# Altium integrated library TI_Logic_Specialty_Logic.IntLib: 2504 symbols (part 54 of 81)
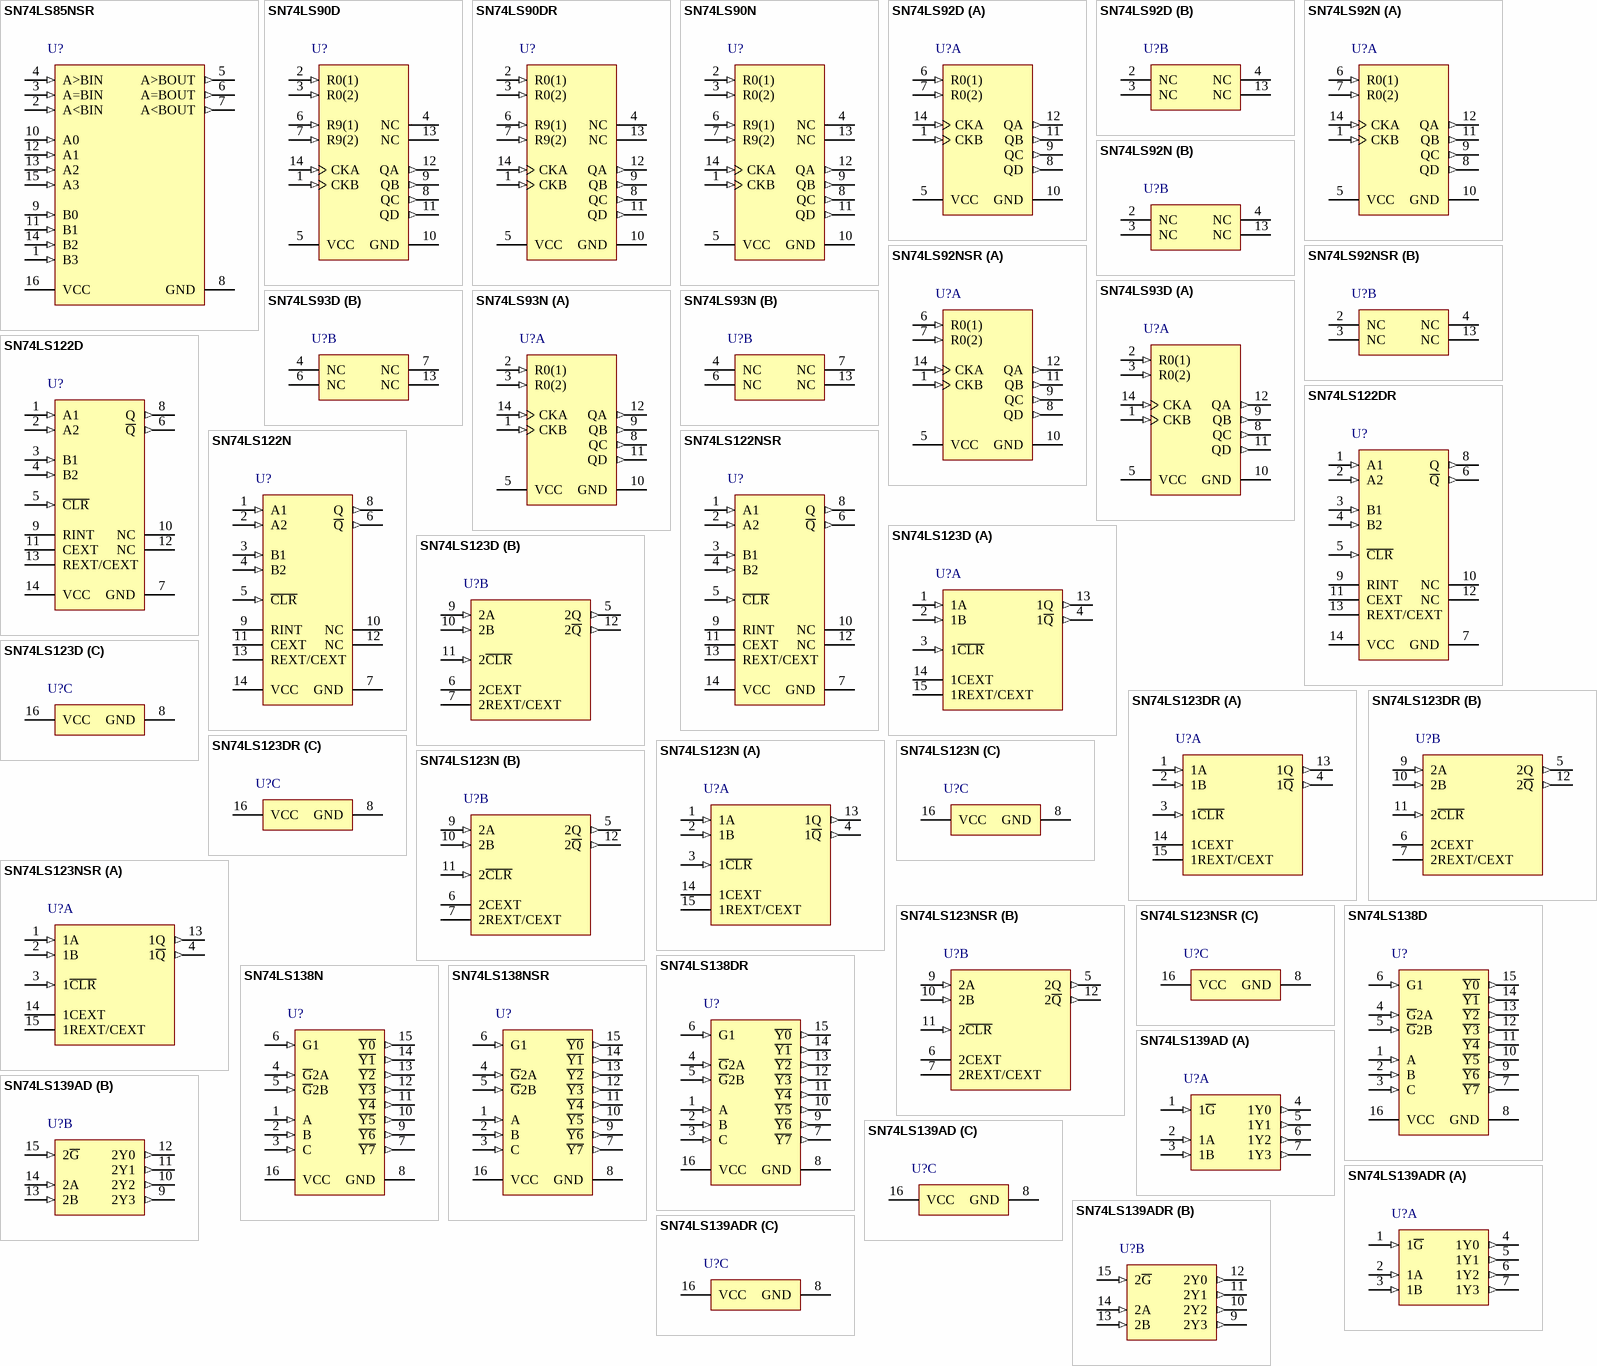
[diagram p157: symbols SN74LS85NSR to SN74LS139ADR]

## SN74LS122N
designator U?
Retriggerable monostable multivibrator, N0014A, TUBE; Generic Part Number: SN74LS122; Manufacturer: Texas Instruments; PartNumber: SN74LS122N; VCC(Min)(V): 4.75; VCC(Max)(V): 5.25; Output Type: TTL; ICC @ Nom Voltage(Max)(mA): 11; Bits(#): 2; F @ Nom Voltage(Max)(Mhz): 35; Rating: Catalog; Technology Family: LS; Voltage(Nom)(V): 5; Schmitt Trigger: No; Output Drive (IOL/IOH)(Max)(mA): 8/-0.4; tpd @ Nom Voltage(Max)(ns): 56; DatasheetVersion: SDLS043; PackageReference: N0014A; Supplier 1: Mouser; Supplier Part Number 1: 595-SN74LS122N; Supplier 2: Digi-Key; Supplier Part Number 2: 296-3639-5-ND; Input Type: TTL; Operating Temperature Range(C): 0 to 70; Code_JEDEC: MS-001; ComponentLink1Description: Manufacturer URL; ComponentLink1URL: http://www.ti.com/; ComponentLink2Description: Datasheet; ComponentLink2URL: http://www.ti.com/lit/ds/symlink/sn74ls122.pdf; ComponentLink3Description: Package Specification; ComponentLink3URL: http://www.ti.com/lit/ml/mpdi002c/mpdi002c.pdf
footprint N0014A (DIP, 14-Leads, Body 19.7x6.6mm, Pitch 2.54mm)
pins: 1 A1 (in), 2 A2 (in), 3 B1 (in), 4 B2 (in), 5 ~{CLR} (in), 6 ~{Q} (out), 7 GND (power), 8 Q (out), 9 RINT, 10 NC, 11 CEXT, 12 NC, 13 REXT/CEXT, 14 VCC (power)

## SN74LS122NSR
designator U?
Retriggerable monostable multivibrator, NS0014A, LARGE T&R; Generic Part Number: SN74LS122; Manufacturer: Texas Instruments; PartNumber: SN74LS122NSR; VCC(Min)(V): 4.75; VCC(Max)(V): 5.25; Output Type: TTL; ICC @ Nom Voltage(Max)(mA): 11; Bits(#): 2; F @ Nom Voltage(Max)(Mhz): 35; Rating: Catalog; Technology Family: LS; Voltage(Nom)(V): 5; Schmitt Trigger: No; Output Drive (IOL/IOH)(Max)(mA): 8/-0.4; tpd @ Nom Voltage(Max)(ns): 56; DatasheetVersion: SDLS043; PackageReference: NS0014A; Supplier 1: Mouser; Supplier Part Number 1: 595-SN74LS122NSR; Supplier 2: Digi-Key; Supplier Part Number 2: 296-13221-2-ND; Supplier 3: Digi-Key; Supplier Part Number 3: 296-13221-1-ND; Supplier 4: Digi-Key; Supplier Part Number 4: 296-13221-6-ND; Input Type: TTL; Operating Temperature Range(C): 0 to 70; ComponentLink1Description: Manufacturer URL; ComponentLink1URL: http://www.ti.com/; ComponentLink2Description: Datasheet; ComponentLink2URL: http://www.ti.com/lit/ds/symlink/sn74ls122.pdf; ComponentLink3Description: Package Specification; ComponentLink3URL: http://www.ti.com/lit/ml/msop002a/msop002a.pdf
footprint NS0014A_N (SOIC,14-Leads,Body 10.5x5.6mm,Pitch 1.27mm,IPC Medium Density)
footprint NS0014A_M (SOIC,14-Leads,Body 10.5x5.6mm,Pitch 1.27mm,IPC Low Density)
footprint NS0014A_L (SOIC,14-Leads,Body 10.5x5.6mm,Pitch 0.4mm,IPC High Density)
pins: 1 A1 (in), 2 A2 (in), 3 B1 (in), 4 B2 (in), 5 ~{CLR} (in), 6 ~{Q} (out), 7 GND (power), 8 Q (out), 9 RINT, 10 NC, 11 CEXT, 12 NC, 13 REXT/CEXT, 14 VCC (power)

## SN74LS123D
designator U?
Dual retriggerable monostable multivibrators, D0016A, TUBE; Generic Part Number: SN74LS123; Manufacturer: Texas Instruments; PartNumber: SN74LS123D; VCC(Min)(V): 4.75; VCC(Max)(V): 5.25; Output Type: TTL; ICC @ Nom Voltage(Max)(mA): 20; Bits(#): 2; F @ Nom Voltage(Max)(Mhz): 35; Rating: Catalog; Technology Family: LS; Voltage(Nom)(V): 5; Schmitt Trigger: No; Output Drive (IOL/IOH)(Max)(mA): 8/-0.4; tpd @ Nom Voltage(Max)(ns): 56; DatasheetVersion: SDLS043; PackageReference: D0016A; Supplier 1: Mouser; Supplier Part Number 1: 595-SN74LS123D; Supplier 2: Digi-Key; Supplier Part Number 2: 296-1635-5-ND; Input Type: TTL; Operating Temperature Range(C): 0 to 70; Code_JEDEC: MS-012 variation AC; ComponentLink1Description: Manufacturer URL; ComponentLink1URL: http://www.ti.com/; ComponentLink2Description: Datasheet; ComponentLink2URL: http://www.ti.com/lit/ds/symlink/sn74ls123.pdf; ComponentLink3Description: Package Specification; ComponentLink3URL: http://www.ti.com/lit/ml/mpds178g/mpds178g.pdf
footprint D0016A_N (SOIC, 16-Leads, Body 10x4mm, Pitch 1.27mm, IPC Medium Density)
footprint D0016A_M (SOIC, 16-Leads, Body 10x4mm, Pitch 1.27mm, IPC Low Density)
footprint D0016A_L (SOIC, 16-Leads, Body 10x4mm, Pitch 1.27mm, IPC High Density)
part A pins: 1 1A (in), 2 1B (in), 3 1~{CLR} (in), 4 1~{Q} (out), 13 1Q (out), 14 1CEXT, 15 1REXT/CEXT
part B pins: 5 2Q (out), 6 2CEXT, 7 2REXT/CEXT, 9 2A (in), 10 2B (in), 11 2~{CLR} (in), 12 2~{Q} (out)
part C pins: 8 GND (power), 16 VCC (power)

## SN74LS123DR
designator U?
Dual retriggerable monostable multivibrators, D0016A, LARGE T&R; Generic Part Number: SN74LS123; Manufacturer: Texas Instruments; PartNumber: SN74LS123DR; VCC(Min)(V): 4.75; VCC(Max)(V): 5.25; Output Type: TTL; ICC @ Nom Voltage(Max)(mA): 20; Bits(#): 2; F @ Nom Voltage(Max)(Mhz): 35; Rating: Catalog; Technology Family: LS; Voltage(Nom)(V): 5; Schmitt Trigger: No; Output Drive (IOL/IOH)(Max)(mA): 8/-0.4; tpd @ Nom Voltage(Max)(ns): 56; DatasheetVersion: SDLS043; PackageReference: D0016A; Supplier 1: Mouser; Supplier Part Number 1: 595-SN74LS123DR; Supplier 2: Digi-Key; Supplier Part Number 2: 296-14881-2-ND; Supplier 3: Digi-Key; Supplier Part Number 3: 296-14881-1-ND; Supplier 4: Digi-Key; Supplier Part Number 4: 296-14881-6-ND; Input Type: TTL; Operating Temperature Range(C): 0 to 70; Code_JEDEC: MS-012 variation AC; ComponentLink1Description: Manufacturer URL; ComponentLink1URL: http://www.ti.com/; ComponentLink2Description: Datasheet; ComponentLink2URL: http://www.ti.com/lit/ds/symlink/sn74ls123.pdf; ComponentLink3Description: Package Specification; ComponentLink3URL: http://www.ti.com/lit/ml/mpds178g/mpds178g.pdf
footprint D0016A_N (SOIC, 16-Leads, Body 10x4mm, Pitch 1.27mm, IPC Medium Density)
footprint D0016A_M (SOIC, 16-Leads, Body 10x4mm, Pitch 1.27mm, IPC Low Density)
footprint D0016A_L (SOIC, 16-Leads, Body 10x4mm, Pitch 1.27mm, IPC High Density)
part A pins: 1 1A (in), 2 1B (in), 3 1~{CLR} (in), 4 1~{Q} (out), 13 1Q (out), 14 1CEXT, 15 1REXT/CEXT
part B pins: 5 2Q (out), 6 2CEXT, 7 2REXT/CEXT, 9 2A (in), 10 2B (in), 11 2~{CLR} (in), 12 2~{Q} (out)
part C pins: 8 GND (power), 16 VCC (power)

## SN74LS123N
designator U?
Dual retriggerable monostable multivibrators, N0016A, TUBE; Generic Part Number: SN74LS123; Manufacturer: Texas Instruments; PartNumber: SN74LS123N; VCC(Min)(V): 4.75; VCC(Max)(V): 5.25; Output Type: TTL; ICC @ Nom Voltage(Max)(mA): 20; Bits(#): 2; F @ Nom Voltage(Max)(Mhz): 35; Rating: Catalog; Technology Family: LS; Voltage(Nom)(V): 5; Schmitt Trigger: No; Output Drive (IOL/IOH)(Max)(mA): 8/-0.4; tpd @ Nom Voltage(Max)(ns): 56; DatasheetVersion: SDLS043; PackageReference: N0016A; Supplier 1: Mouser; Supplier Part Number 1: 595-SN74LS123N; Supplier 2: Digi-Key; Supplier Part Number 2: 296-1636-5-ND; Input Type: TTL; Operating Temperature Range(C): 0 to 70; Code_JEDEC: MS-001; ComponentLink1Description: Manufacturer URL; ComponentLink1URL: http://www.ti.com/; ComponentLink2Description: Datasheet; ComponentLink2URL: http://www.ti.com/lit/ds/symlink/sn74ls123.pdf; ComponentLink3Description: Package Specification; ComponentLink3URL: http://www.ti.com/lit/ml/mpdi002c/mpdi002c.pdf
footprint N0016A (DIP, 16-Leads, Body 19.7x6.6mm, Pitch 2.54mm)
part A pins: 1 1A (in), 2 1B (in), 3 1~{CLR} (in), 4 1~{Q} (out), 13 1Q (out), 14 1CEXT, 15 1REXT/CEXT
part B pins: 5 2Q (out), 6 2CEXT, 7 2REXT/CEXT, 9 2A (in), 10 2B (in), 11 2~{CLR} (in), 12 2~{Q} (out)
part C pins: 8 GND (power), 16 VCC (power)

## SN74LS123NSR
designator U?
Dual retriggerable monostable multivibrators, NS0016A, LARGE T&R; Generic Part Number: SN74LS123; Manufacturer: Texas Instruments; PartNumber: SN74LS123NSR; VCC(Min)(V): 4.75; VCC(Max)(V): 5.25; Output Type: TTL; ICC @ Nom Voltage(Max)(mA): 20; Bits(#): 2; F @ Nom Voltage(Max)(Mhz): 35; Rating: Catalog; Technology Family: LS; Voltage(Nom)(V): 5; Schmitt Trigger: No; Output Drive (IOL/IOH)(Max)(mA): 8/-0.4; tpd @ Nom Voltage(Max)(ns): 56; DatasheetVersion: SDLS043; PackageReference: NS0016A; Supplier 1: Mouser; Supplier Part Number 1: 595-SN74LS123NSR; Supplier 2: Digi-Key; Supplier Part Number 2: 296-26503-2-ND; Supplier 3: Digi-Key; Supplier Part Number 3: 296-26503-1-ND; Supplier 4: Digi-Key; Supplier Part Number 4: 296-26503-6-ND; Input Type: TTL; Operating Temperature Range(C): 0 to 70; ComponentLink1Description: Manufacturer URL; ComponentLink1URL: http://www.ti.com/; ComponentLink2Description: Datasheet; ComponentLink2URL: http://www.ti.com/lit/ds/symlink/sn74ls123.pdf; ComponentLink3Description: Package Specification; ComponentLink3URL: http://www.ti.com/lit/ml/msop002a/msop002a.pdf
footprint NS0016A_N (SOIC,16-Leads,Body 10.5x5.6mm,Pitch 1.27mm,IPC Medium Density)
footprint NS0016A_M (SOIC,16-Leads,Body 10.5x5.6mm,Pitch 1.27mm,IPC Low Density)
footprint NS0016A_L (SOIC,16-Leads,Body 10.5x5.6mm,Pitch 1.27mm,IPC High Density)
part A pins: 1 1A (in), 2 1B (in), 3 1~{CLR} (in), 4 1~{Q} (out), 13 1Q (out), 14 1CEXT, 15 1REXT/CEXT
part B pins: 5 2Q (out), 6 2CEXT, 7 2REXT/CEXT, 9 2A (in), 10 2B (in), 11 2~{CLR} (in), 12 2~{Q} (out)
part C pins: 8 GND (power), 16 VCC (power)

## SN74LS138D
designator U?
3-line to 8-line decoder / demultiplexer, D0016A, TUBE; Generic Part Number: SN74LS138; Manufacturer: Texas Instruments; PartNumber: SN74LS138D; VCC(Min)(V): 4.75; VCC(Max)(V): 5.25; Output Type: TTL; ICC @ Nom Voltage(Max)(mA): 10; Bits(#): 8; F @ Nom Voltage(Max)(Mhz): 35; Configuration: 3：8; Channels(#): 1; Rating: Catalog; Technology Family: LS; Voltage(Nom)(V): 5; Schmitt Trigger: No; Output Drive (IOL/IOH)(Max)(mA): 8/-0.4; tpd @ Nom Voltage(Max)(ns): 41; DatasheetVersion: SDLS014; PackageReference: D0016A; Supplier 1: Mouser; Supplier Part Number 1: 595-SN74LS138D; Supplier 2: Digi-Key; Supplier Part Number 2: 296-3648-5-ND; Function: Decoder/Demultiplexer; Input Type: TTL; Operating Temperature Range(C): 0 to 70; Type: Standard; Code_JEDEC: MS-012 variation AC; ComponentLink1Description: Manufacturer URL; ComponentLink1URL: http://www.ti.com/; ComponentLink2Description: Datasheet; ComponentLink2URL: http://www.ti.com/lit/ds/symlink/sn74ls138.pdf; ComponentLink3Description: Package Specification; ComponentLink3URL: http://www.ti.com/lit/ml/mpds178g/mpds178g.pdf
footprint D0016A_N (SOIC, 16-Leads, Body 10x4mm, Pitch 1.27mm, IPC Medium Density)
footprint D0016A_M (SOIC, 16-Leads, Body 10x4mm, Pitch 1.27mm, IPC Low Density)
footprint D0016A_L (SOIC, 16-Leads, Body 10x4mm, Pitch 1.27mm, IPC High Density)
pins: 1 A (in), 2 B (in), 3 C (in), 4 ~{G}2A (in), 5 ~{G}2B (in), 6 G1 (in), 7 ~{Y7} (out), 8 GND (power), 9 ~{Y6} (out), 10 ~{Y5} (out), 11 ~{Y4} (out), 12 ~{Y3} (out), 13 ~{Y2} (out), 14 ~{Y1} (out), 15 ~{Y0} (out), 16 VCC (power)

## SN74LS138DR
designator U?
3-line to 8-line decoder / demultiplexer, D0016A, LARGE T&R; Generic Part Number: SN74LS138; Manufacturer: Texas Instruments; PartNumber: SN74LS138DR; VCC(Min)(V): 4.75; VCC(Max)(V): 5.25; Output Type: TTL; ICC @ Nom Voltage(Max)(mA): 10; Bits(#): 8; F @ Nom Voltage(Max)(Mhz): 35; Configuration: 3：8; Channels(#): 1; Rating: Catalog; Technology Family: LS; Voltage(Nom)(V): 5; Schmitt Trigger: No; Output Drive (IOL/IOH)(Max)(mA): 8/-0.4; tpd @ Nom Voltage(Max)(ns): 41; DatasheetVersion: SDLS014; PackageReference: D0016A; Supplier 1: Mouser; Supplier Part Number 1: 595-SN74LS138DR; Supplier 2: Digi-Key; Supplier Part Number 2: 296-14883-2-ND; Supplier 3: Digi-Key; Supplier Part Number 3: 296-14883-1-ND; Supplier 4: Digi-Key; Supplier Part Number 4: 296-14883-6-ND; Function: Decoder/Demultiplexer; Input Type: TTL; Operating Temperature Range(C): 0 to 70; Type: Standard; Code_JEDEC: MS-012 variation AC; ComponentLink1Description: Manufacturer URL; ComponentLink1URL: http://www.ti.com/; ComponentLink2Description: Datasheet; ComponentLink2URL: http://www.ti.com/lit/ds/symlink/sn74ls138.pdf; ComponentLink3Description: Package Specification; ComponentLink3URL: http://www.ti.com/lit/ml/mpds178g/mpds178g.pdf
footprint D0016A_N (SOIC, 16-Leads, Body 10x4mm, Pitch 1.27mm, IPC Medium Density)
footprint D0016A_M (SOIC, 16-Leads, Body 10x4mm, Pitch 1.27mm, IPC Low Density)
footprint D0016A_L (SOIC, 16-Leads, Body 10x4mm, Pitch 1.27mm, IPC High Density)
pins: 1 A (in), 2 B (in), 3 C (in), 4 ~{G}2A (in), 5 ~{G}2B (in), 6 G1 (in), 7 ~{Y7} (out), 8 GND (power), 9 ~{Y6} (out), 10 ~{Y5} (out), 11 ~{Y4} (out), 12 ~{Y3} (out), 13 ~{Y2} (out), 14 ~{Y1} (out), 15 ~{Y0} (out), 16 VCC (power)

## SN74LS138N
designator U?
3-line to 8-line decoder / demultiplexer, N0016A, TUBE; Generic Part Number: SN74LS138; Manufacturer: Texas Instruments; PartNumber: SN74LS138N; VCC(Min)(V): 4.75; VCC(Max)(V): 5.25; Output Type: TTL; ICC @ Nom Voltage(Max)(mA): 10; Bits(#): 8; F @ Nom Voltage(Max)(Mhz): 35; Configuration: 3：8; Channels(#): 1; Rating: Catalog; Technology Family: LS; Voltage(Nom)(V): 5; Schmitt Trigger: No; Output Drive (IOL/IOH)(Max)(mA): 8/-0.4; tpd @ Nom Voltage(Max)(ns): 41; DatasheetVersion: SDLS014; PackageReference: N0016A; Supplier 1: Mouser; Supplier Part Number 1: 595-SN74LS138N; Supplier 2: Digi-Key; Supplier Part Number 2: 296-1639-5-ND; Function: Decoder/Demultiplexer; Input Type: TTL; Operating Temperature Range(C): 0 to 70; Type: Standard; Code_JEDEC: MS-001; ComponentLink1Description: Manufacturer URL; ComponentLink1URL: http://www.ti.com/; ComponentLink2Description: Datasheet; ComponentLink2URL: http://www.ti.com/lit/ds/symlink/sn74ls138.pdf; ComponentLink3Description: Package Specification; ComponentLink3URL: http://www.ti.com/lit/ml/mpdi002c/mpdi002c.pdf
footprint N0016A (DIP, 16-Leads, Body 19.7x6.6mm, Pitch 2.54mm)
pins: 1 A (in), 2 B (in), 3 C (in), 4 ~{G}2A (in), 5 ~{G}2B (in), 6 G1 (in), 7 ~{Y7} (out), 8 GND (power), 9 ~{Y6} (out), 10 ~{Y5} (out), 11 ~{Y4} (out), 12 ~{Y3} (out), 13 ~{Y2} (out), 14 ~{Y1} (out), 15 ~{Y0} (out), 16 VCC (power)

## SN74LS138NSR
designator U?
3-line to 8-line decoder / demultiplexer, NS0016A, LARGE T&R; Generic Part Number: SN74LS138; Manufacturer: Texas Instruments; PartNumber: SN74LS138NSR; VCC(Min)(V): 4.75; VCC(Max)(V): 5.25; Output Type: TTL; ICC @ Nom Voltage(Max)(mA): 10; Bits(#): 8; F @ Nom Voltage(Max)(Mhz): 35; Configuration: 3：8; Channels(#): 1; Rating: Catalog; Technology Family: LS; Voltage(Nom)(V): 5; Schmitt Trigger: No; Output Drive (IOL/IOH)(Max)(mA): 8/-0.4; tpd @ Nom Voltage(Max)(ns): 41; DatasheetVersion: SDLS014; PackageReference: NS0016A; Supplier 1: Mouser; Supplier Part Number 1: 595-SN74LS138NSR; Supplier 2: Digi-Key; Supplier Part Number 2: 296-31849-2-ND; Supplier 3: Digi-Key; Supplier Part Number 3: 296-31849-1-ND; Supplier 4: Digi-Key; Supplier Part Number 4: 296-31849-6-ND; Function: Decoder/Demultiplexer; Input Type: TTL; Operating Temperature Range(C): 0 to 70; Type: Standard; ComponentLink1Description: Manufacturer URL; ComponentLink1URL: http://www.ti.com/; ComponentLink2Description: Datasheet; ComponentLink2URL: http://www.ti.com/lit/ds/symlink/sn74ls138.pdf; ComponentLink3Description: Package Specification; ComponentLink3URL: http://www.ti.com/lit/ml/msop002a/msop002a.pdf
footprint NS0016A_N (SOIC,16-Leads,Body 10.5x5.6mm,Pitch 1.27mm,IPC Medium Density)
footprint NS0016A_M (SOIC,16-Leads,Body 10.5x5.6mm,Pitch 1.27mm,IPC Low Density)
footprint NS0016A_L (SOIC,16-Leads,Body 10.5x5.6mm,Pitch 1.27mm,IPC High Density)
pins: 1 A (in), 2 B (in), 3 C (in), 4 ~{G}2A (in), 5 ~{G}2B (in), 6 G1 (in), 7 ~{Y7} (out), 8 GND (power), 9 ~{Y6} (out), 10 ~{Y5} (out), 11 ~{Y4} (out), 12 ~{Y3} (out), 13 ~{Y2} (out), 14 ~{Y1} (out), 15 ~{Y0} (out), 16 VCC (power)

## SN74LS139AD
designator U?
Dual 2-line to 4-line decoders / demultiplexers, D0016A, TUBE; Generic Part Number: SN74LS139A; Manufacturer: Texas Instruments; PartNumber: SN74LS139AD; VCC(Min)(V): 4.75; VCC(Max)(V): 5.25; Output Type: TTL; Function: Decoder/Demultiplexer; ICC @ Nom Voltage(Max)(mA): 11; Bits(#): 4; F @ Nom Voltage(Max)(Mhz): 35; Configuration: 2：4; Channels(#): 2; Rating: Catalog; Technology Family: LS; Voltage(Nom)(V): 5; Schmitt Trigger: No; Output Drive (IOL/IOH)(Max)(mA): 8/-0.4; tpd @ Nom Voltage(Max)(ns): 33; DatasheetVersion: SDLS013A; PackageReference: D0016A; Supplier 1: Mouser; Supplier Part Number 1: 595-SN74LS139AD; Supplier 2: Digi-Key; Supplier Part Number 2: 296-3649-5-ND; Input Type: TTL; Operating Temperature Range(C): 0 to 70; Type: Standard; Code_JEDEC: MS-012 variation AC; ComponentLink1Description: Manufacturer URL; ComponentLink1URL: http://www.ti.com/; ComponentLink2Description: Datasheet; ComponentLink2URL: http://www.ti.com/lit/ds/symlink/sn74ls139a.pdf; ComponentLink3Description: Package Specification; ComponentLink3URL: http://www.ti.com/lit/ml/mpds178g/mpds178g.pdf
footprint D0016A_N (SOIC, 16-Leads, Body 10x4mm, Pitch 1.27mm, IPC Medium Density)
footprint D0016A_M (SOIC, 16-Leads, Body 10x4mm, Pitch 1.27mm, IPC Low Density)
footprint D0016A_L (SOIC, 16-Leads, Body 10x4mm, Pitch 1.27mm, IPC High Density)
part A pins: 1 1~{G} (in), 2 1A (in), 3 1B (in), 4 1Y0 (out), 5 1Y1 (out), 6 1Y2 (out), 7 1Y3 (out)
part B pins: 9 2Y3 (out), 10 2Y2 (out), 11 2Y1 (out), 12 2Y0 (out), 13 2B (in), 14 2A (in), 15 2~{G} (in)
part C pins: 8 GND (power), 16 VCC (power)

## SN74LS139ADR
designator U?
Dual 2-line to 4-line decoders / demultiplexers, D0016A, LARGE T&R; Generic Part Number: SN74LS139A; Manufacturer: Texas Instruments; PartNumber: SN74LS139ADR; VCC(Min)(V): 4.75; VCC(Max)(V): 5.25; Output Type: TTL; Function: Decoder/Demultiplexer; ICC @ Nom Voltage(Max)(mA): 11; Bits(#): 4; F @ Nom Voltage(Max)(Mhz): 35; Configuration: 2：4; Channels(#): 2; Rating: Catalog; Technology Family: LS; Voltage(Nom)(V): 5; Schmitt Trigger: No; Output Drive (IOL/IOH)(Max)(mA): 8/-0.4; tpd @ Nom Voltage(Max)(ns): 33; DatasheetVersion: SDLS013A; PackageReference: D0016A; Supplier 1: Mouser; Supplier Part Number 1: 595-SN74LS139ADR; Supplier 2: Digi-Key; Supplier Part Number 2: 296-31850-2-ND; Supplier 3: Digi-Key; Supplier Part Number 3: 296-31850-1-ND; Supplier 4: Digi-Key; Supplier Part Number 4: 296-31850-6-ND; Input Type: TTL; Operating Temperature Range(C): 0 to 70; Type: Standard; Code_JEDEC: MS-012 variation AC; ComponentLink1Description: Manufacturer URL; ComponentLink1URL: http://www.ti.com/; ComponentLink2Description: Datasheet; ComponentLink2URL: http://www.ti.com/lit/ds/symlink/sn74ls139a.pdf; ComponentLink3Description: Package Specification; ComponentLink3URL: http://www.ti.com/lit/ml/mpds178g/mpds178g.pdf
footprint D0016A_N (SOIC, 16-Leads, Body 10x4mm, Pitch 1.27mm, IPC Medium Density)
footprint D0016A_M (SOIC, 16-Leads, Body 10x4mm, Pitch 1.27mm, IPC Low Density)
footprint D0016A_L (SOIC, 16-Leads, Body 10x4mm, Pitch 1.27mm, IPC High Density)
part A pins: 1 1~{G} (in), 2 1A (in), 3 1B (in), 4 1Y0 (out), 5 1Y1 (out), 6 1Y2 (out), 7 1Y3 (out)
part B pins: 9 2Y3 (out), 10 2Y2 (out), 11 2Y1 (out), 12 2Y0 (out), 13 2B (in), 14 2A (in), 15 2~{G} (in)
part C pins: 8 GND (power), 16 VCC (power)

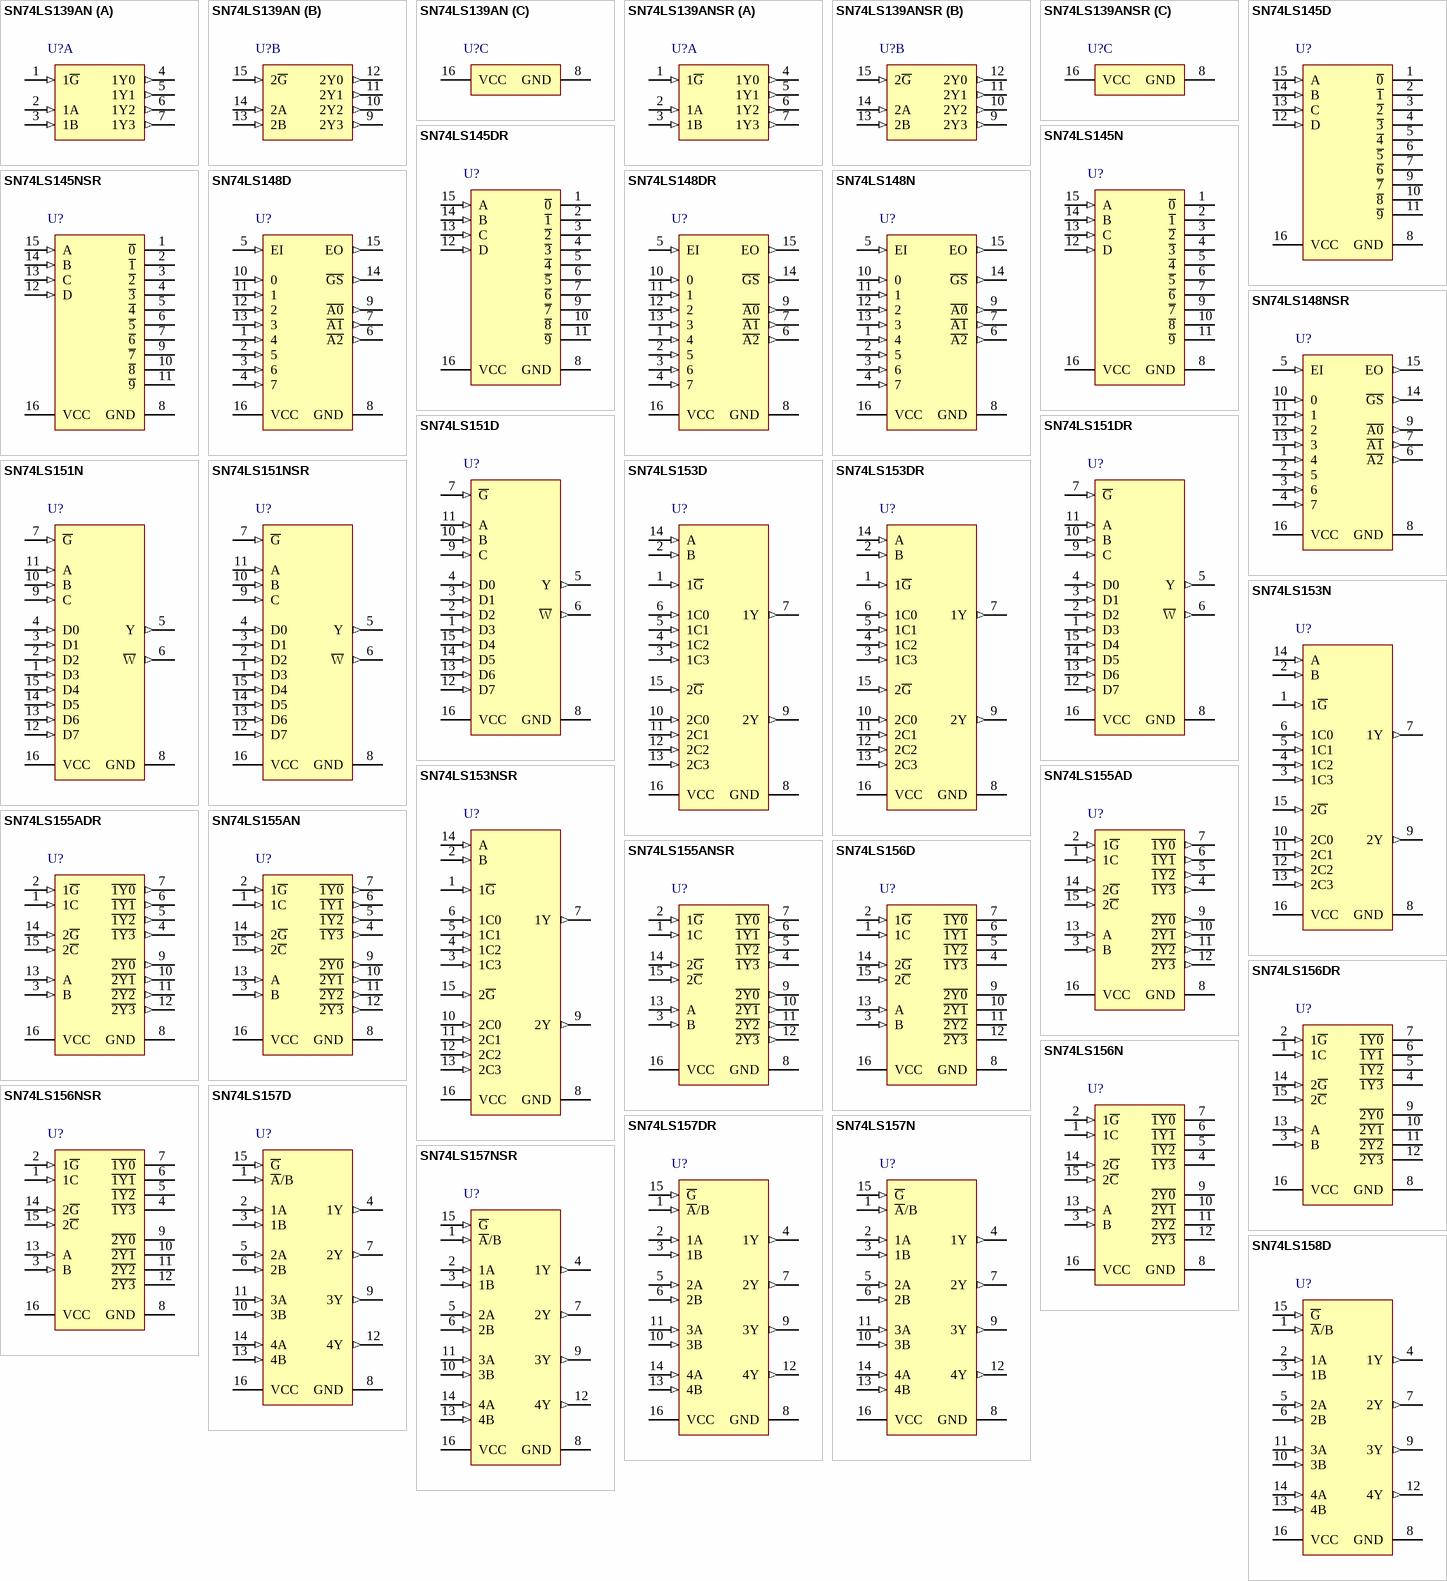
[diagram p68: symbols SN74LS139AN to SN74LS158D]

## SN74LS139AN
designator U?
Dual 2-line to 4-line decoders / demultiplexers, N0016A, TUBE; Generic Part Number: SN74LS139A; Manufacturer: Texas Instruments; PartNumber: SN74LS139AN; VCC(Min)(V): 4.75; VCC(Max)(V): 5.25; Output Type: TTL; Function: Decoder/Demultiplexer; ICC @ Nom Voltage(Max)(mA): 11; Bits(#): 4; F @ Nom Voltage(Max)(Mhz): 35; Configuration: 2：4; Channels(#): 2; Rating: Catalog; Technology Family: LS; Voltage(Nom)(V): 5; Schmitt Trigger: No; Output Drive (IOL/IOH)(Max)(mA): 8/-0.4; tpd @ Nom Voltage(Max)(ns): 33; DatasheetVersion: SDLS013A; PackageReference: N0016A; Supplier 1: Mouser; Supplier Part Number 1: 595-SN74LS139AN; Supplier 2: Digi-Key; Supplier Part Number 2: 296-1640-5-ND; Input Type: TTL; Operating Temperature Range(C): 0 to 70; Type: Standard; Code_JEDEC: MS-001; ComponentLink1Description: Manufacturer URL; ComponentLink1URL: http://www.ti.com/; ComponentLink2Description: Datasheet; ComponentLink2URL: http://www.ti.com/lit/ds/symlink/sn74ls139a.pdf; ComponentLink3Description: Package Specification; ComponentLink3URL: http://www.ti.com/lit/ml/mpdi002c/mpdi002c.pdf
footprint N0016A (DIP, 16-Leads, Body 19.7x6.6mm, Pitch 2.54mm)
part A pins: 1 1~{G} (in), 2 1A (in), 3 1B (in), 4 1Y0 (out), 5 1Y1 (out), 6 1Y2 (out), 7 1Y3 (out)
part B pins: 9 2Y3 (out), 10 2Y2 (out), 11 2Y1 (out), 12 2Y0 (out), 13 2B (in), 14 2A (in), 15 2~{G} (in)
part C pins: 8 GND (power), 16 VCC (power)

## SN74LS139ANSR
designator U?
Dual 2-line to 4-line decoders / demultiplexers, NS0016A, LARGE T&R; Generic Part Number: SN74LS139A; Manufacturer: Texas Instruments; PartNumber: SN74LS139ANSR; VCC(Min)(V): 4.75; VCC(Max)(V): 5.25; Output Type: TTL; Function: Decoder/Demultiplexer; ICC @ Nom Voltage(Max)(mA): 11; Bits(#): 4; F @ Nom Voltage(Max)(Mhz): 35; Configuration: 2：4; Channels(#): 2; Rating: Catalog; Technology Family: LS; Voltage(Nom)(V): 5; Schmitt Trigger: No; Output Drive (IOL/IOH)(Max)(mA): 8/-0.4; tpd @ Nom Voltage(Max)(ns): 33; DatasheetVersion: SDLS013A; PackageReference: NS0016A; Supplier 1: Mouser; Supplier Part Number 1: 595-SN74LS139ANSR; Supplier 2: Digi-Key; Supplier Part Number 2: 296-28940-2-ND; Supplier 3: Digi-Key; Supplier Part Number 3: 296-28940-1-ND; Supplier 4: Digi-Key; Supplier Part Number 4: 296-28940-6-ND; Input Type: TTL; Operating Temperature Range(C): 0 to 70; Type: Standard; ComponentLink1Description: Manufacturer URL; ComponentLink1URL: http://www.ti.com/; ComponentLink2Description: Datasheet; ComponentLink2URL: http://www.ti.com/lit/ds/symlink/sn74ls139a.pdf; ComponentLink3Description: Package Specification; ComponentLink3URL: http://www.ti.com/lit/ml/msop002a/msop002a.pdf
footprint NS0016A_N (SOIC,16-Leads,Body 10.5x5.6mm,Pitch 1.27mm,IPC Medium Density)
footprint NS0016A_M (SOIC,16-Leads,Body 10.5x5.6mm,Pitch 1.27mm,IPC Low Density)
footprint NS0016A_L (SOIC,16-Leads,Body 10.5x5.6mm,Pitch 1.27mm,IPC High Density)
part A pins: 1 1~{G} (in), 2 1A (in), 3 1B (in), 4 1Y0 (out), 5 1Y1 (out), 6 1Y2 (out), 7 1Y3 (out)
part B pins: 9 2Y3 (out), 10 2Y2 (out), 11 2Y1 (out), 12 2Y0 (out), 13 2B (in), 14 2A (in), 15 2~{G} (in)
part C pins: 8 GND (power), 16 VCC (power)

## SN74LS145D
designator U?
BCD-To-Decimal Decoders/Drivers, D0016A, TUBE; Generic Part Number: SN74LS145; Manufacturer: Texas Instruments; PartNumber: SN74LS145D; VCC(Min)(V): 4.75; VCC(Max)(V): 5.25; Output Type: TTL; Function: Decoder/Demultiplexer; ICC @ Nom Voltage(Max)(mA): 13; Bits(#): 10; F @ Nom Voltage(Max)(Mhz): 35; Configuration: 4：10; Channels(#): 1; Rating: Catalog; Technology Family: LS; Voltage(Nom)(V): 5; Schmitt Trigger: No; Output Drive (IOL/IOH)(Max)(mA): 80/-20; tpd @ Nom Voltage(Max)(ns): 50; DatasheetVersion: SDLS051; PackageReference: D0016A; Supplier 1: Mouser; Supplier Part Number 1: 595-SN74LS145D; Supplier 2: Digi-Key; Supplier Part Number 2: 296-26504-5-ND; Input Type: TTL; Operating Temperature Range(C): 0 to 70; Type: Standard; Code_JEDEC: MS-012 variation AC; ComponentLink1Description: Manufacturer URL; ComponentLink1URL: http://www.ti.com/; ComponentLink2Description: Datasheet; ComponentLink2URL: http://www.ti.com/lit/ds/symlink/sn74ls145.pdf; ComponentLink3Description: Package Specification; ComponentLink3URL: http://www.ti.com/lit/ml/mpds178g/mpds178g.pdf
footprint D0016A_N (SOIC, 16-Leads, Body 10x4mm, Pitch 1.27mm, IPC Medium Density)
footprint D0016A_M (SOIC, 16-Leads, Body 10x4mm, Pitch 1.27mm, IPC Low Density)
footprint D0016A_L (SOIC, 16-Leads, Body 10x4mm, Pitch 1.27mm, IPC High Density)
pins: 1 ~{0} (oc), 2 ~{1} (oc), 3 ~{2} (oc), 4 ~{3} (oc), 5 ~{4} (oc), 6 ~{5} (oc), 7 ~{6} (oc), 8 GND (power), 9 ~{7} (oc), 10 ~{8} (oc), 11 ~{9} (oc), 12 D (in), 13 C (in), 14 B (in), 15 A (in), 16 VCC (power)

## SN74LS145DR
designator U?
BCD-To-Decimal Decoders/Drivers, D0016A, LARGE T&R; Generic Part Number: SN74LS145; Manufacturer: Texas Instruments; PartNumber: SN74LS145DR; VCC(Min)(V): 4.75; VCC(Max)(V): 5.25; Output Type: TTL; Function: Decoder/Demultiplexer; ICC @ Nom Voltage(Max)(mA): 13; Bits(#): 10; F @ Nom Voltage(Max)(Mhz): 35; Configuration: 4：10; Channels(#): 1; Rating: Catalog; Technology Family: LS; Voltage(Nom)(V): 5; Schmitt Trigger: No; Output Drive (IOL/IOH)(Max)(mA): 80/-20; tpd @ Nom Voltage(Max)(ns): 50; DatasheetVersion: SDLS051; PackageReference: D0016A; Supplier 1: Mouser; Supplier Part Number 1: 595-SN74LS145DR; Supplier 2: Digi-Key; Supplier Part Number 2: 296-31851-2-ND; Supplier 3: Digi-Key; Supplier Part Number 3: 296-31851-1-ND; Supplier 4: Digi-Key; Supplier Part Number 4: 296-31851-6-ND; Input Type: TTL; Operating Temperature Range(C): 0 to 70; Type: Standard; Code_JEDEC: MS-012 variation AC; ComponentLink1Description: Manufacturer URL; ComponentLink1URL: http://www.ti.com/; ComponentLink2Description: Datasheet; ComponentLink2URL: http://www.ti.com/lit/ds/symlink/sn74ls145.pdf; ComponentLink3Description: Package Specification; ComponentLink3URL: http://www.ti.com/lit/ml/mpds178g/mpds178g.pdf
footprint D0016A_N (SOIC, 16-Leads, Body 10x4mm, Pitch 1.27mm, IPC Medium Density)
footprint D0016A_M (SOIC, 16-Leads, Body 10x4mm, Pitch 1.27mm, IPC Low Density)
footprint D0016A_L (SOIC, 16-Leads, Body 10x4mm, Pitch 1.27mm, IPC High Density)
pins: 1 ~{0} (oc), 2 ~{1} (oc), 3 ~{2} (oc), 4 ~{3} (oc), 5 ~{4} (oc), 6 ~{5} (oc), 7 ~{6} (oc), 8 GND (power), 9 ~{7} (oc), 10 ~{8} (oc), 11 ~{9} (oc), 12 D (in), 13 C (in), 14 B (in), 15 A (in), 16 VCC (power)

## SN74LS145N
designator U?
BCD-To-Decimal Decoders/Drivers, N0016A, TUBE; Generic Part Number: SN74LS145; Manufacturer: Texas Instruments; PartNumber: SN74LS145N; VCC(Min)(V): 4.75; VCC(Max)(V): 5.25; Output Type: TTL; Function: Decoder/Demultiplexer; ICC @ Nom Voltage(Max)(mA): 13; Bits(#): 10; F @ Nom Voltage(Max)(Mhz): 35; Configuration: 4：10; Channels(#): 1; Rating: Catalog; Technology Family: LS; Voltage(Nom)(V): 5; Schmitt Trigger: No; Output Drive (IOL/IOH)(Max)(mA): 80/-20; tpd @ Nom Voltage(Max)(ns): 50; DatasheetVersion: SDLS051; PackageReference: N0016A; Supplier 1: Mouser; Supplier Part Number 1: 595-SN74LS145N; Supplier 2: Digi-Key; Supplier Part Number 2: 296-1641-5-ND; Input Type: TTL; Operating Temperature Range(C): 0 to 70; Type: Standard; Code_JEDEC: MS-001; ComponentLink1Description: Manufacturer URL; ComponentLink1URL: http://www.ti.com/; ComponentLink2Description: Datasheet; ComponentLink2URL: http://www.ti.com/lit/ds/symlink/sn74ls145.pdf; ComponentLink3Description: Package Specification; ComponentLink3URL: http://www.ti.com/lit/ml/mpdi002c/mpdi002c.pdf
footprint N0016A (DIP, 16-Leads, Body 19.7x6.6mm, Pitch 2.54mm)
pins: 1 ~{0} (oc), 2 ~{1} (oc), 3 ~{2} (oc), 4 ~{3} (oc), 5 ~{4} (oc), 6 ~{5} (oc), 7 ~{6} (oc), 8 GND (power), 9 ~{7} (oc), 10 ~{8} (oc), 11 ~{9} (oc), 12 D (in), 13 C (in), 14 B (in), 15 A (in), 16 VCC (power)

## SN74LS145NSR
designator U?
BCD-To-Decimal Decoders/Drivers, NS0016A, LARGE T&R; Generic Part Number: SN74LS145; Manufacturer: Texas Instruments; PartNumber: SN74LS145NSR; VCC(Min)(V): 4.75; VCC(Max)(V): 5.25; Output Type: TTL; Function: Decoder/Demultiplexer; ICC @ Nom Voltage(Max)(mA): 13; Bits(#): 10; F @ Nom Voltage(Max)(Mhz): 35; Configuration: 4：10; Channels(#): 1; Rating: Catalog; Technology Family: LS; Voltage(Nom)(V): 5; Schmitt Trigger: No; Output Drive (IOL/IOH)(Max)(mA): 80/-20; tpd @ Nom Voltage(Max)(ns): 50; DatasheetVersion: SDLS051; PackageReference: NS0016A; Supplier 1: Mouser; Supplier Part Number 1: 595-SN74LS145NSR; Supplier 2: Digi-Key; Supplier Part Number 2: 296-38798-2-ND; Supplier 3: Digi-Key; Supplier Part Number 3: 296-38798-1-ND; Supplier 4: Digi-Key; Supplier Part Number 4: 296-38798-6-ND; Input Type: TTL; Operating Temperature Range(C): 0 to 70; Type: Standard; ComponentLink1Description: Manufacturer URL; ComponentLink1URL: http://www.ti.com/; ComponentLink2Description: Datasheet; ComponentLink2URL: http://www.ti.com/lit/ds/symlink/sn74ls145.pdf; ComponentLink3Description: Package Specification; ComponentLink3URL: http://www.ti.com/lit/ml/msop002a/msop002a.pdf
footprint NS0016A_N (SOIC,16-Leads,Body 10.5x5.6mm,Pitch 1.27mm,IPC Medium Density)
footprint NS0016A_M (SOIC,16-Leads,Body 10.5x5.6mm,Pitch 1.27mm,IPC Low Density)
footprint NS0016A_L (SOIC,16-Leads,Body 10.5x5.6mm,Pitch 1.27mm,IPC High Density)
pins: 1 ~{0} (oc), 2 ~{1} (oc), 3 ~{2} (oc), 4 ~{3} (oc), 5 ~{4} (oc), 6 ~{5} (oc), 7 ~{6} (oc), 8 GND (power), 9 ~{7} (oc), 10 ~{8} (oc), 11 ~{9} (oc), 12 D (in), 13 C (in), 14 B (in), 15 A (in), 16 VCC (power)

## SN74LS148D
designator U?
8-line to 3-line priority encoder, D0016A, TUBE; Generic Part Number: SN74LS148; Manufacturer: Texas Instruments; PartNumber: SN74LS148D; VCC(Min)(V): 4.75; VCC(Max)(V): 5.25; Output Type: TTL; Function: Encoder/Multiplexer; ICC @ Nom Voltage(Max)(mA): 20; Bits(#): 8; F @ Nom Voltage(Max)(Mhz): 35; Configuration: 8：3; Channels(#): 1; Rating: Catalog; Technology Family: LS; Voltage(Nom)(V): 5; Schmitt Trigger: No; Output Drive (IOL/IOH)(Max)(mA): 8/-0.4; tpd @ Nom Voltage(Max)(ns): 19; DatasheetVersion: SDLS053B; PackageReference: D0016A; Supplier 1: Mouser; Supplier Part Number 1: 595-SN74LS148D; Supplier 2: Digi-Key; Supplier Part Number 2: 296-33958-5-ND; Input Type: TTL; Operating Temperature Range(C): 0 to 70; Type: Standard; Code_JEDEC: MS-012 variation AC; ComponentLink1Description: Manufacturer URL; ComponentLink1URL: http://www.ti.com/; ComponentLink2Description: Datasheet; ComponentLink2URL: http://www.ti.com/lit/ds/symlink/sn74ls148.pdf; ComponentLink3Description: Package Specification; ComponentLink3URL: http://www.ti.com/lit/ml/mpds178g/mpds178g.pdf
footprint D0016A_N (SOIC, 16-Leads, Body 10x4mm, Pitch 1.27mm, IPC Medium Density)
footprint D0016A_M (SOIC, 16-Leads, Body 10x4mm, Pitch 1.27mm, IPC Low Density)
footprint D0016A_L (SOIC, 16-Leads, Body 10x4mm, Pitch 1.27mm, IPC High Density)
pins: 1 4 (in), 2 5 (in), 3 6 (in), 4 7 (in), 5 EI (in), 6 ~{A2} (out), 7 ~{A1} (out), 8 GND (power), 9 ~{A0} (out), 10 0 (in), 11 1 (in), 12 2 (in), 13 3 (in), 14 ~{GS} (out), 15 EO (out), 16 VCC (power)

## SN74LS148DR
designator U?
8-line to 3-line priority encoder, D0016A, LARGE T&R; Generic Part Number: SN74LS148; Manufacturer: Texas Instruments; PartNumber: SN74LS148DR; VCC(Min)(V): 4.75; VCC(Max)(V): 5.25; Output Type: TTL; Function: Encoder/Multiplexer; ICC @ Nom Voltage(Max)(mA): 20; Bits(#): 8; F @ Nom Voltage(Max)(Mhz): 35; Configuration: 8：3; Channels(#): 1; Rating: Catalog; Technology Family: LS; Voltage(Nom)(V): 5; Schmitt Trigger: No; Output Drive (IOL/IOH)(Max)(mA): 8/-0.4; tpd @ Nom Voltage(Max)(ns): 19; DatasheetVersion: SDLS053B; PackageReference: D0016A; Supplier 1: Mouser; Supplier Part Number 1: 595-SN74LS148DR; Supplier 2: Digi-Key; Supplier Part Number 2: 296-29445-2-ND; Supplier 3: Digi-Key; Supplier Part Number 3: 296-29445-1-ND; Supplier 4: Digi-Key; Supplier Part Number 4: 296-29445-6-ND; Input Type: TTL; Operating Temperature Range(C): 0 to 70; Type: Standard; Code_JEDEC: MS-012 variation AC; ComponentLink1Description: Manufacturer URL; ComponentLink1URL: http://www.ti.com/; ComponentLink2Description: Datasheet; ComponentLink2URL: http://www.ti.com/lit/ds/symlink/sn74ls148.pdf; ComponentLink3Description: Package Specification; ComponentLink3URL: http://www.ti.com/lit/ml/mpds178g/mpds178g.pdf
footprint D0016A_N (SOIC, 16-Leads, Body 10x4mm, Pitch 1.27mm, IPC Medium Density)
footprint D0016A_M (SOIC, 16-Leads, Body 10x4mm, Pitch 1.27mm, IPC Low Density)
footprint D0016A_L (SOIC, 16-Leads, Body 10x4mm, Pitch 1.27mm, IPC High Density)
pins: 1 4 (in), 2 5 (in), 3 6 (in), 4 7 (in), 5 EI (in), 6 ~{A2} (out), 7 ~{A1} (out), 8 GND (power), 9 ~{A0} (out), 10 0 (in), 11 1 (in), 12 2 (in), 13 3 (in), 14 ~{GS} (out), 15 EO (out), 16 VCC (power)

## SN74LS148N
designator U?
8-line to 3-line priority encoder, N0016A, TUBE; Generic Part Number: SN74LS148; Manufacturer: Texas Instruments; PartNumber: SN74LS148N; VCC(Min)(V): 4.75; VCC(Max)(V): 5.25; Output Type: TTL; Function: Encoder/Multiplexer; ICC @ Nom Voltage(Max)(mA): 20; Bits(#): 8; F @ Nom Voltage(Max)(Mhz): 35; Configuration: 8：3; Channels(#): 1; Rating: Catalog; Technology Family: LS; Voltage(Nom)(V): 5; Schmitt Trigger: No; Output Drive (IOL/IOH)(Max)(mA): 8/-0.4; tpd @ Nom Voltage(Max)(ns): 19; DatasheetVersion: SDLS053B; PackageReference: N0016A; Supplier 1: Mouser; Supplier Part Number 1: 595-SN74LS148N; Supplier 2: Digi-Key; Supplier Part Number 2: 296-3651-5-ND; Input Type: TTL; Operating Temperature Range(C): 0 to 70; Type: Standard; Code_JEDEC: MS-001; ComponentLink1Description: Manufacturer URL; ComponentLink1URL: http://www.ti.com/; ComponentLink2Description: Datasheet; ComponentLink2URL: http://www.ti.com/lit/ds/symlink/sn74ls148.pdf; ComponentLink3Description: Package Specification; ComponentLink3URL: http://www.ti.com/lit/ml/mpdi002c/mpdi002c.pdf
footprint N0016A (DIP, 16-Leads, Body 19.7x6.6mm, Pitch 2.54mm)
pins: 1 4 (in), 2 5 (in), 3 6 (in), 4 7 (in), 5 EI (in), 6 ~{A2} (out), 7 ~{A1} (out), 8 GND (power), 9 ~{A0} (out), 10 0 (in), 11 1 (in), 12 2 (in), 13 3 (in), 14 ~{GS} (out), 15 EO (out), 16 VCC (power)

## SN74LS148NSR
designator U?
8-line to 3-line priority encoder, NS0016A, LARGE T&R; Generic Part Number: SN74LS148; Manufacturer: Texas Instruments; PartNumber: SN74LS148NSR; VCC(Min)(V): 4.75; VCC(Max)(V): 5.25; Output Type: TTL; Function: Encoder/Multiplexer; ICC @ Nom Voltage(Max)(mA): 20; Bits(#): 8; F @ Nom Voltage(Max)(Mhz): 35; Configuration: 8：3; Channels(#): 1; Rating: Catalog; Technology Family: LS; Voltage(Nom)(V): 5; Schmitt Trigger: No; Output Drive (IOL/IOH)(Max)(mA): 8/-0.4; tpd @ Nom Voltage(Max)(ns): 19; DatasheetVersion: SDLS053B; PackageReference: NS0016A; Supplier 1: Mouser; Supplier Part Number 1: 595-SN74LS148NSR; Supplier 2: Digi-Key; Supplier Part Number 2: 296-28941-2-ND; Supplier 3: Digi-Key; Supplier Part Number 3: 296-28941-1-ND; Supplier 4: Digi-Key; Supplier Part Number 4: 296-28941-6-ND; Input Type: TTL; Operating Temperature Range(C): 0 to 70; Type: Standard; ComponentLink1Description: Manufacturer URL; ComponentLink1URL: http://www.ti.com/; ComponentLink2Description: Datasheet; ComponentLink2URL: http://www.ti.com/lit/ds/symlink/sn74ls148.pdf; ComponentLink3Description: Package Specification; ComponentLink3URL: http://www.ti.com/lit/ml/msop002a/msop002a.pdf
footprint NS0016A_N (SOIC,16-Leads,Body 10.5x5.6mm,Pitch 1.27mm,IPC Medium Density)
footprint NS0016A_M (SOIC,16-Leads,Body 10.5x5.6mm,Pitch 1.27mm,IPC Low Density)
footprint NS0016A_L (SOIC,16-Leads,Body 10.5x5.6mm,Pitch 1.27mm,IPC High Density)
pins: 1 4 (in), 2 5 (in), 3 6 (in), 4 7 (in), 5 EI (in), 6 ~{A2} (out), 7 ~{A1} (out), 8 GND (power), 9 ~{A0} (out), 10 0 (in), 11 1 (in), 12 2 (in), 13 3 (in), 14 ~{GS} (out), 15 EO (out), 16 VCC (power)

## SN74LS151D
designator U?
8-Line To 1-Line Data Selectors/Multiplexers, D0016A, TUBE; Generic Part Number: SN74LS151; Manufacturer: Texas Instruments; PartNumber: SN74LS151D; VCC(Min)(V): 4.75; VCC(Max)(V): 5.25; Output Type: TTL; Function: Encoder/Multiplexer; ICC @ Nom Voltage(Max)(mA): 10; Bits(#): 16; F @ Nom Voltage(Max)(Mhz): 35; Channels(#): 1; Rating: Catalog; Technology Family: LS; Voltage(Nom)(V): 5; Schmitt Trigger: No; Output Drive (IOL/IOH)(Max)(mA): 8/-0.4; tpd @ Nom Voltage(Max)(ns): 38; DatasheetVersion: SDLS054; PackageReference: D0016A; Supplier 1: Mouser; Supplier Part Number 1: 595-SN74LS151D; Supplier 2: Digi-Key; Supplier Part Number 2: 296-33959-5-ND; Input Type: TTL; Configuration: 16; Operating Temperature Range(C): 0 to 70; Type: Standard; Code_JEDEC: MS-012 variation AC; ComponentLink1Description: Manufacturer URL; ComponentLink1URL: http://www.ti.com/; ComponentLink2Description: Datasheet; ComponentLink2URL: http://www.ti.com/lit/ds/symlink/sn74ls151.pdf; ComponentLink3Description: Package Specification; ComponentLink3URL: http://www.ti.com/lit/ml/mpds178g/mpds178g.pdf
footprint D0016A_N (SOIC, 16-Leads, Body 10x4mm, Pitch 1.27mm, IPC Medium Density)
footprint D0016A_M (SOIC, 16-Leads, Body 10x4mm, Pitch 1.27mm, IPC Low Density)
footprint D0016A_L (SOIC, 16-Leads, Body 10x4mm, Pitch 1.27mm, IPC High Density)
pins: 1 D3 (in), 2 D2 (in), 3 D1 (in), 4 D0 (in), 5 Y (out), 6 ~{W} (out), 7 ~{G} (in), 8 GND (power), 9 C (in), 10 B (in), 11 A (in), 12 D7 (in), 13 D6 (in), 14 D5 (in), 15 D4 (in), 16 VCC (power)

## SN74LS151DR
designator U?
8-Line To 1-Line Data Selectors/Multiplexers, D0016A, LARGE T&R; Generic Part Number: SN74LS151; Manufacturer: Texas Instruments; PartNumber: SN74LS151DR; VCC(Min)(V): 4.75; VCC(Max)(V): 5.25; Output Type: TTL; Function: Encoder/Multiplexer; ICC @ Nom Voltage(Max)(mA): 10; Bits(#): 16; F @ Nom Voltage(Max)(Mhz): 35; Channels(#): 1; Rating: Catalog; Technology Family: LS; Voltage(Nom)(V): 5; Schmitt Trigger: No; Output Drive (IOL/IOH)(Max)(mA): 8/-0.4; tpd @ Nom Voltage(Max)(ns): 38; DatasheetVersion: SDLS054; PackageReference: D0016A; Supplier 1: Mouser; Supplier Part Number 1: 595-SN74LS151DR; Supplier 2: Digi-Key; Supplier Part Number 2: 296-29446-2-ND; Supplier 3: Digi-Key; Supplier Part Number 3: 296-29446-1-ND; Supplier 4: Digi-Key; Supplier Part Number 4: 296-29446-6-ND; Input Type: TTL; Configuration: 16; Operating Temperature Range(C): 0 to 70; Type: Standard; Code_JEDEC: MS-012 variation AC; ComponentLink1Description: Manufacturer URL; ComponentLink1URL: http://www.ti.com/; ComponentLink2Description: Datasheet; ComponentLink2URL: http://www.ti.com/lit/ds/symlink/sn74ls151.pdf; ComponentLink3Description: Package Specification; ComponentLink3URL: http://www.ti.com/lit/ml/mpds178g/mpds178g.pdf
footprint D0016A_N (SOIC, 16-Leads, Body 10x4mm, Pitch 1.27mm, IPC Medium Density)
footprint D0016A_M (SOIC, 16-Leads, Body 10x4mm, Pitch 1.27mm, IPC Low Density)
footprint D0016A_L (SOIC, 16-Leads, Body 10x4mm, Pitch 1.27mm, IPC High Density)
pins: 1 D3 (in), 2 D2 (in), 3 D1 (in), 4 D0 (in), 5 Y (out), 6 ~{W} (out), 7 ~{G} (in), 8 GND (power), 9 C (in), 10 B (in), 11 A (in), 12 D7 (in), 13 D6 (in), 14 D5 (in), 15 D4 (in), 16 VCC (power)

## SN74LS151N
designator U?
8-Line To 1-Line Data Selectors/Multiplexers, N0016A, TUBE; Generic Part Number: SN74LS151; Manufacturer: Texas Instruments; PartNumber: SN74LS151N; VCC(Min)(V): 4.75; VCC(Max)(V): 5.25; Output Type: TTL; Function: Encoder/Multiplexer; ICC @ Nom Voltage(Max)(mA): 10; Bits(#): 16; F @ Nom Voltage(Max)(Mhz): 35; Channels(#): 1; Rating: Catalog; Technology Family: LS; Voltage(Nom)(V): 5; Schmitt Trigger: No; Output Drive (IOL/IOH)(Max)(mA): 8/-0.4; tpd @ Nom Voltage(Max)(ns): 38; DatasheetVersion: SDLS054; PackageReference: N0016A; Supplier 1: Mouser; Supplier Part Number 1: 595-SN74LS151N; Supplier 2: Digi-Key; Supplier Part Number 2: 296-1644-5-ND; Input Type: TTL; Configuration: 16; Operating Temperature Range(C): 0 to 70; Type: Standard; Code_JEDEC: MS-001; ComponentLink1Description: Manufacturer URL; ComponentLink1URL: http://www.ti.com/; ComponentLink2Description: Datasheet; ComponentLink2URL: http://www.ti.com/lit/ds/symlink/sn74ls151.pdf; ComponentLink3Description: Package Specification; ComponentLink3URL: http://www.ti.com/lit/ml/mpdi002c/mpdi002c.pdf
footprint N0016A (DIP, 16-Leads, Body 19.7x6.6mm, Pitch 2.54mm)
pins: 1 D3 (in), 2 D2 (in), 3 D1 (in), 4 D0 (in), 5 Y (out), 6 ~{W} (out), 7 ~{G} (in), 8 GND (power), 9 C (in), 10 B (in), 11 A (in), 12 D7 (in), 13 D6 (in), 14 D5 (in), 15 D4 (in), 16 VCC (power)

## SN74LS151NSR
designator U?
8-Line To 1-Line Data Selectors/Multiplexers, NS0016A, LARGE T&R; Generic Part Number: SN74LS151; Manufacturer: Texas Instruments; PartNumber: SN74LS151NSR; VCC(Min)(V): 4.75; VCC(Max)(V): 5.25; Output Type: TTL; Function: Encoder/Multiplexer; ICC @ Nom Voltage(Max)(mA): 10; Bits(#): 16; F @ Nom Voltage(Max)(Mhz): 35; Channels(#): 1; Rating: Catalog; Technology Family: LS; Voltage(Nom)(V): 5; Schmitt Trigger: No; Output Drive (IOL/IOH)(Max)(mA): 8/-0.4; tpd @ Nom Voltage(Max)(ns): 38; DatasheetVersion: SDLS054; PackageReference: NS0016A; Supplier 1: Mouser; Supplier Part Number 1: 595-SN74LS151NSR; Supplier 2: Digi-Key; Supplier Part Number 2: 296-28715-2-ND; Supplier 3: Digi-Key; Supplier Part Number 3: 296-28715-1-ND; Supplier 4: Digi-Key; Supplier Part Number 4: 296-28715-6-ND; Input Type: TTL; Configuration: 16; Operating Temperature Range(C): 0 to 70; Type: Standard; ComponentLink1Description: Manufacturer URL; ComponentLink1URL: http://www.ti.com/; ComponentLink2Description: Datasheet; ComponentLink2URL: http://www.ti.com/lit/ds/symlink/sn74ls151.pdf; ComponentLink3Description: Package Specification; ComponentLink3URL: http://www.ti.com/lit/ml/msop002a/msop002a.pdf
footprint NS0016A_N (SOIC,16-Leads,Body 10.5x5.6mm,Pitch 1.27mm,IPC Medium Density)
footprint NS0016A_M (SOIC,16-Leads,Body 10.5x5.6mm,Pitch 1.27mm,IPC Low Density)
footprint NS0016A_L (SOIC,16-Leads,Body 10.5x5.6mm,Pitch 1.27mm,IPC High Density)
pins: 1 D3 (in), 2 D2 (in), 3 D1 (in), 4 D0 (in), 5 Y (out), 6 ~{W} (out), 7 ~{G} (in), 8 GND (power), 9 C (in), 10 B (in), 11 A (in), 12 D7 (in), 13 D6 (in), 14 D5 (in), 15 D4 (in), 16 VCC (power)

## SN74LS153D
designator U?
Dual 4-Line To 1-Line Data Selectors/Multiplexers, D0016A, TUBE; Generic Part Number: SN74LS153; Manufacturer: Texas Instruments; PartNumber: SN74LS153D; VCC(Min)(V): 4.75; VCC(Max)(V): 5.25; Output Type: TTL; Function: Encoder/Multiplexer; ICC @ Nom Voltage(Max)(mA): 10; Bits(#): 4; F @ Nom Voltage(Max)(Mhz): 35; Configuration: 4：1; Channels(#): 2; Rating: Catalog; Technology Family: LS; Voltage(Nom)(V): 5; Schmitt Trigger: No; Output Drive (IOL/IOH)(Max)(mA): 8/-0.4; tpd @ Nom Voltage(Max)(ns): 23; DatasheetVersion: SDLS055A; PackageReference: D0016A; Supplier 1: Mouser; Supplier Part Number 1: 595-SN74LS153D; Supplier 2: Digi-Key; Supplier Part Number 2: 296-3653-5-ND; Input Type: TTL; Operating Temperature Range(C): 0 to 70; Type: Standard; Code_JEDEC: MS-012 variation AC; ComponentLink1Description: Manufacturer URL; ComponentLink1URL: http://www.ti.com/; ComponentLink2Description: Datasheet; ComponentLink2URL: http://www.ti.com/lit/ds/symlink/sn74ls153.pdf; ComponentLink3Description: Package Specification; ComponentLink3URL: http://www.ti.com/lit/ml/mpds178g/mpds178g.pdf
footprint D0016A_N (SOIC, 16-Leads, Body 10x4mm, Pitch 1.27mm, IPC Medium Density)
footprint D0016A_M (SOIC, 16-Leads, Body 10x4mm, Pitch 1.27mm, IPC Low Density)
footprint D0016A_L (SOIC, 16-Leads, Body 10x4mm, Pitch 1.27mm, IPC High Density)
pins: 1 1~{G} (in), 2 B (in), 3 1C3 (in), 4 1C2 (in), 5 1C1 (in), 6 1C0 (in), 7 1Y (out), 8 GND (power), 9 2Y (out), 10 2C0 (in), 11 2C1 (in), 12 2C2 (in), 13 2C3 (in), 14 A (in), 15 2~{G} (in), 16 VCC (power)

## SN74LS153DR
designator U?
Dual 4-Line To 1-Line Data Selectors/Multiplexers, D0016A, LARGE T&R; Generic Part Number: SN74LS153; Manufacturer: Texas Instruments; PartNumber: SN74LS153DR; VCC(Min)(V): 4.75; VCC(Max)(V): 5.25; Output Type: TTL; Function: Encoder/Multiplexer; ICC @ Nom Voltage(Max)(mA): 10; Bits(#): 4; F @ Nom Voltage(Max)(Mhz): 35; Configuration: 4：1; Channels(#): 2; Rating: Catalog; Technology Family: LS; Voltage(Nom)(V): 5; Schmitt Trigger: No; Output Drive (IOL/IOH)(Max)(mA): 8/-0.4; tpd @ Nom Voltage(Max)(ns): 23; DatasheetVersion: SDLS055A; PackageReference: D0016A; Supplier 1: Mouser; Supplier Part Number 1: 595-SN74LS153DR; Supplier 2: Digi-Key; Supplier Part Number 2: SN74LS153DR-ND; Input Type: TTL; Operating Temperature Range(C): 0 to 70; Type: Standard; Code_JEDEC: MS-012 variation AC; ComponentLink1Description: Manufacturer URL; ComponentLink1URL: http://www.ti.com/; ComponentLink2Description: Datasheet; ComponentLink2URL: http://www.ti.com/lit/ds/symlink/sn74ls153.pdf; ComponentLink3Description: Package Specification; ComponentLink3URL: http://www.ti.com/lit/ml/mpds178g/mpds178g.pdf
footprint D0016A_N (SOIC, 16-Leads, Body 10x4mm, Pitch 1.27mm, IPC Medium Density)
footprint D0016A_M (SOIC, 16-Leads, Body 10x4mm, Pitch 1.27mm, IPC Low Density)
footprint D0016A_L (SOIC, 16-Leads, Body 10x4mm, Pitch 1.27mm, IPC High Density)
pins: 1 1~{G} (in), 2 B (in), 3 1C3 (in), 4 1C2 (in), 5 1C1 (in), 6 1C0 (in), 7 1Y (out), 8 GND (power), 9 2Y (out), 10 2C0 (in), 11 2C1 (in), 12 2C2 (in), 13 2C3 (in), 14 A (in), 15 2~{G} (in), 16 VCC (power)

## SN74LS153N
designator U?
Dual 4-Line To 1-Line Data Selectors/Multiplexers, N0016A, TUBE; Generic Part Number: SN74LS153; Manufacturer: Texas Instruments; PartNumber: SN74LS153N; VCC(Min)(V): 4.75; VCC(Max)(V): 5.25; Output Type: TTL; Function: Encoder/Multiplexer; ICC @ Nom Voltage(Max)(mA): 10; Bits(#): 4; F @ Nom Voltage(Max)(Mhz): 35; Configuration: 4：1; Channels(#): 2; Rating: Catalog; Technology Family: LS; Voltage(Nom)(V): 5; Schmitt Trigger: No; Output Drive (IOL/IOH)(Max)(mA): 8/-0.4; tpd @ Nom Voltage(Max)(ns): 23; DatasheetVersion: SDLS055A; PackageReference: N0016A; Supplier 1: Mouser; Supplier Part Number 1: 595-SN74LS153N; Supplier 2: Digi-Key; Supplier Part Number 2: 296-3654-5-ND; Input Type: TTL; Operating Temperature Range(C): 0 to 70; Type: Standard; Code_JEDEC: MS-001; ComponentLink1Description: Manufacturer URL; ComponentLink1URL: http://www.ti.com/; ComponentLink2Description: Datasheet; ComponentLink2URL: http://www.ti.com/lit/ds/symlink/sn74ls153.pdf; ComponentLink3Description: Package Specification; ComponentLink3URL: http://www.ti.com/lit/ml/mpdi002c/mpdi002c.pdf
footprint N0016A (DIP, 16-Leads, Body 19.7x6.6mm, Pitch 2.54mm)
pins: 1 1~{G} (in), 2 B (in), 3 1C3 (in), 4 1C2 (in), 5 1C1 (in), 6 1C0 (in), 7 1Y (out), 8 GND (power), 9 2Y (out), 10 2C0 (in), 11 2C1 (in), 12 2C2 (in), 13 2C3 (in), 14 A (in), 15 2~{G} (in), 16 VCC (power)

## SN74LS153NSR
designator U?
Dual 4-Line To 1-Line Data Selectors/Multiplexers, NS0016A, LARGE T&R; Generic Part Number: SN74LS153; Manufacturer: Texas Instruments; PartNumber: SN74LS153NSR; VCC(Min)(V): 4.75; VCC(Max)(V): 5.25; Output Type: TTL; Function: Encoder/Multiplexer; ICC @ Nom Voltage(Max)(mA): 10; Bits(#): 4; F @ Nom Voltage(Max)(Mhz): 35; Configuration: 4：1; Channels(#): 2; Rating: Catalog; Technology Family: LS; Voltage(Nom)(V): 5; Schmitt Trigger: No; Output Drive (IOL/IOH)(Max)(mA): 8/-0.4; tpd @ Nom Voltage(Max)(ns): 23; DatasheetVersion: SDLS055A; PackageReference: NS0016A; Supplier 1: Mouser; Supplier Part Number 1: 595-SN74LS153NSR; Supplier 2: Digi-Key; Supplier Part Number 2: 296-28716-2-ND; Supplier 3: Digi-Key; Supplier Part Number 3: 296-28716-1-ND; Supplier 4: Digi-Key; Supplier Part Number 4: 296-28716-6-ND; Input Type: TTL; Operating Temperature Range(C): 0 to 70; Type: Standard; ComponentLink1Description: Manufacturer URL; ComponentLink1URL: http://www.ti.com/; ComponentLink2Description: Datasheet; ComponentLink2URL: http://www.ti.com/lit/ds/symlink/sn74ls153.pdf; ComponentLink3Description: Package Specification; ComponentLink3URL: http://www.ti.com/lit/ml/msop002a/msop002a.pdf
footprint NS0016A_N (SOIC,16-Leads,Body 10.5x5.6mm,Pitch 1.27mm,IPC Medium Density)
footprint NS0016A_M (SOIC,16-Leads,Body 10.5x5.6mm,Pitch 1.27mm,IPC Low Density)
footprint NS0016A_L (SOIC,16-Leads,Body 10.5x5.6mm,Pitch 1.27mm,IPC High Density)
pins: 1 1~{G} (in), 2 B (in), 3 1C3 (in), 4 1C2 (in), 5 1C1 (in), 6 1C0 (in), 7 1Y (out), 8 GND (power), 9 2Y (out), 10 2C0 (in), 11 2C1 (in), 12 2C2 (in), 13 2C3 (in), 14 A (in), 15 2~{G} (in), 16 VCC (power)

## SN74LS155AD
designator U?
Dual 2-Line To 4-Line Decoders/Demultiplexers, D0016A, TUBE; Generic Part Number: SN74LS155A; Manufacturer: Texas Instruments; PartNumber: SN74LS155AD; VCC(Min)(V): 4.75; VCC(Max)(V): 5.25; Output Type: TTL; Function: Decoder/Demultiplexer; ICC @ Nom Voltage(Max)(mA): 10; Bits(#): 4; F @ Nom Voltage(Max)(Mhz): 35; Configuration: 2：4; Channels(#): 2; Rating: Catalog; Technology Family: LS; Voltage(Nom)(V): 5; Schmitt Trigger: No; Output Drive (IOL/IOH)(Max)(mA): 8/-0.4; tpd @ Nom Voltage(Max)(ns): 27; DatasheetVersion: SDLS057; PackageReference: D0016A; Supplier 1: Mouser; Supplier Part Number 1: 595-SN74LS155AD; Supplier 2: Digi-Key; Supplier Part Number 2: 296-33960-5-ND; Input Type: TTL; Operating Temperature Range(C): 0 to 70; Type: Standard; Code_JEDEC: MS-012 variation AC; ComponentLink1Description: Manufacturer URL; ComponentLink1URL: http://www.ti.com/; ComponentLink2Description: Datasheet; ComponentLink2URL: http://www.ti.com/lit/ds/symlink/sn74ls155a.pdf; ComponentLink3Description: Package Specification; ComponentLink3URL: http://www.ti.com/lit/ml/mpds178g/mpds178g.pdf
footprint D0016A_N (SOIC, 16-Leads, Body 10x4mm, Pitch 1.27mm, IPC Medium Density)
footprint D0016A_M (SOIC, 16-Leads, Body 10x4mm, Pitch 1.27mm, IPC Low Density)
footprint D0016A_L (SOIC, 16-Leads, Body 10x4mm, Pitch 1.27mm, IPC High Density)
pins: 1 1C (in), 2 1~{G} (in), 3 B (in), 4 ~{1Y3} (out), 5 ~{1Y2} (out), 6 ~{1Y1} (out), 7 ~{1Y0} (out), 8 GND (power), 9 ~{2Y0} (out), 10 ~{2Y1} (out), 11 ~{2Y2} (out), 12 ~{2Y3} (out), 13 A (in), 14 2~{G} (in), 15 2~{C} (in), 16 VCC (power)